# Altium footprint library 贴片电容.PcbLib: 24 footprints (part 2 of 2)
Each footprint in its own frame and in the unit in brackets; x right, y up, seen from the top. Pads: shape width x height; smd on the part's side, far side on the other; paste and mask are expansions set on the pad; w line width, h text height; cw(c..) or ccw(c..) is an arc to the next point about the centre after c.
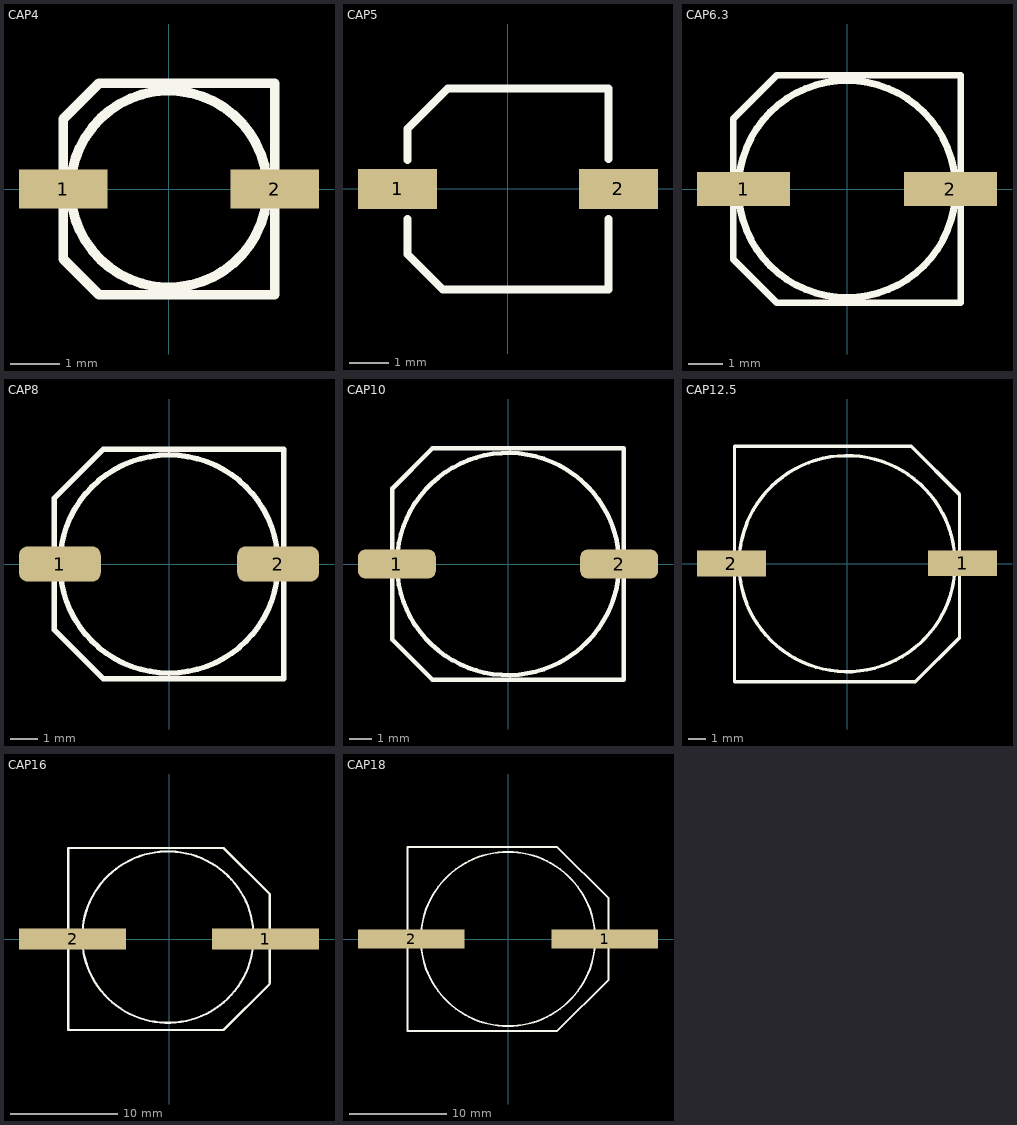
[diagram p1: the footprints below, top view; thin cyan lines are the x and y axes]

## CAP4 [mm] "直径4mm（蒜米工坊）"
height 5.4
pads (2):
  rect 1.8x0.8 smd: 1(-2.15,0) 2(2.15,0)
Top Overlay:
  circle w0.2: c0,0 r2
  lines w0.2: -1.433,-2.139 -2.15,-1.422 ; -1.433,2.139 -2.15,1.422 ; -2.15,-1.422 -2.15,1.422 ; -2.15,-1.422 -1.422,-2.15 2.15,-2.15 2.15,2.15 -1.422,2.15 -2.15,1.422
3D body "SL-B.step": height 5.2, standoff 0, extent -2.286,-2.159 2.314,2.141

## CAP5 [mm] "直径5mm（蒜米工坊）"
pads (2):
  rect 2x1 smd: 1(-2.794,0) 2(2.794,0)
Top Overlay:
  lines w0.2: -2.54,-0.762 -2.54,-1.651 -1.651,-2.54 2.54,-2.54 2.54,-0.762 ; -2.54,0.73 -2.54,1.524 -1.524,2.54 2.54,2.54 2.54,0.762
3D body "SL-B.STEP": height 5.2, standoff 0, extent -2.274,-2.15 2.326,2.15

## CAP6.3 [mm] "直径6.3mm（蒜米工坊）"
height 5.4
pads (2):
  rect 2.7x1 smd: 1(-3,0) 2(3,0)
Top Overlay:
  circle w0.2: c0,0 r3.15
  lines w0.2: -3.3,2.032 -3.3,-2.032 -2.032,-3.3 3.3,-3.3 3.3,3.3 -2.032,3.3 -3.287,2.045
3D body "SL-E.step": height 5.2, standoff 0, extent -3.5,-3.302 3.5,3.298

## CAP8 [mm] "直径8mm（蒜米工坊）"
height 10.2
pads (2):
  rrect50% 3x1.3 smd: 1(-4,0) 2(4,0)
Top Overlay:
  circle w0.2: c0,0 r4
  lines w0.2: -4.2,-2.413 -4.2,2.413 -2.413,4.2 4.2,4.2 4.2,-4.2 -2.413,-4.2 -4.2,-2.413
3D body "SL-H.step": height 10.5, standoff 0, extent -4.521,-4.216 4.479,4.084

## CAP10 [mm] "直径10mm（蒜米工坊）"
height 10.2
pads (2):
  rrect50% 3.5x1.3 smd: 1(-5,0) 2(5,0)
Top Overlay:
  circle w0.2: c0,0 r5
  lines w0.2: -5.2,3.404 -5.2,-3.404 -3.404,-5.2 5.2,-5.2 5.2,5.2 -3.404,5.2 -5.191,3.413
3D body "SW3dPS-capacitor size G.STEP": height 10.21, standoff -0.01, extent -5.775,-5.118 5.825,5.182

## CAP12.5 [mm] "直径12.5mm（蒜米工坊）"
height 16
pads (2):
  rect 4x1.5 smd: 1(6.706,0.025) 2(-6.706,0)
Top Overlay:
  circle w0.2: c0,0 r6.271
  lines w0.2: -6.528,-6.85 3.971,-6.85 6.528,-4.293 6.528,4.013 3.734,6.807 -6.528,6.807 -6.528,-6.85
3D body "CAP_13x14.step": height 13.8, standoff -0.2, extent -7.5,-6.85 7.501,6.85

## CAP16 [mm] "直径16mm（蒜米工坊）"
height 21.5
pads (2):
  rect 10x2 smd: 1(9,0) 2(-9,0)
Top Overlay:
  circle w0.2: c-0.102,0.178 r8
  lines w0.2: 9.373,-4.216 5.089,-8.5 -9.4,-8.5 -9.4,8.5 5.089,8.5 9.373,4.216 ; 9.4,-4.115 9.4,4.191

## CAP18 [mm] "直径18mm（蒜米工坊）"
height 21.5
pads (2):
  rect 11x2 smd: 1(10,0) 2(-10,0)
Top Overlay:
  circle w0.2: c0,0 r9
  lines w0.2: -10.4,-9.5 5.091,-9.5 10.4,-4.191 10.4,4.191 5.091,9.5 -10.4,9.5 -10.4,-9.5